# Altium footprint library Footprints_Semiconductors.PcbLib: 7 footprints
Each footprint in its own frame and in the unit in brackets; x right, y up, seen from the top. Pads: shape width x height; smd on the part's side, far side on the other; paste and mask are expansions set on the pad; w line width, h text height; cw(c..) or ccw(c..) is an arc to the next point about the centre after c.
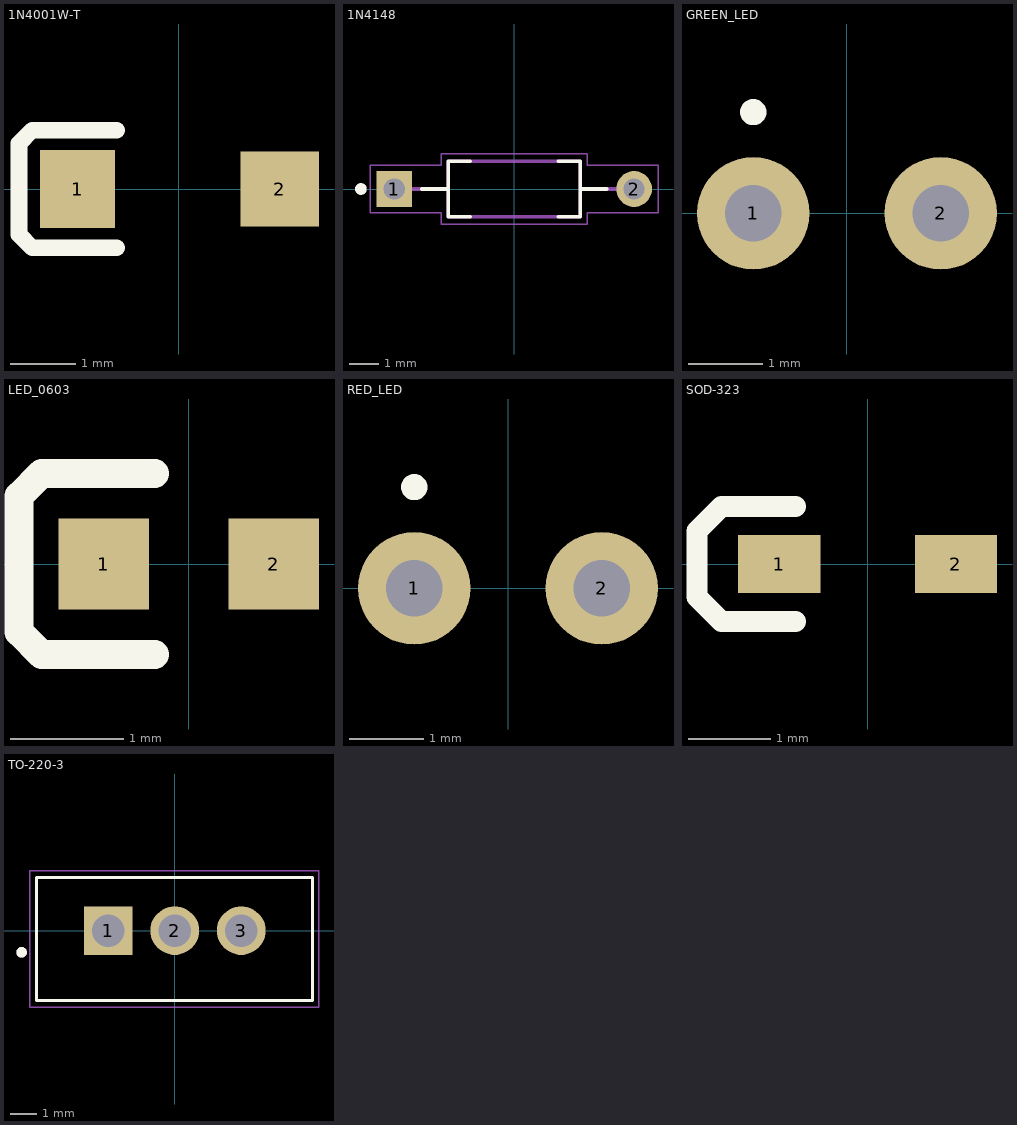
[diagram p0: the footprints below, top view; thin cyan lines are the x and y axes]

## 1N4001W-T [mm]
pads (2):
  rect 1.15x1.2 smd mask+0.05: 1(-1.55,0)
  rect 1.2x1.15 smd mask+0.05: 2(1.55,0)
Top Overlay:
  lines w0.254: -0.95,-0.9 -2.25,-0.9 -2.45,-0.7 -2.45,0.7 -2.25,0.9 -0.95,0.9
3D body "1N4001W-T.stp": height 1.3, standoff 0, extent -1.9,-0.9 1.9,0.9

## 1N4148 [mm]
pads (2):
  rect 1.238x1.238 / inner round 1.238 / far side rect 1.238x1.238 hole 0.73: 1(-4.146,0)
  round 1.238 hole 0.73: 2(4.146,0)
Top Overlay:
  circle w0.2: c-5.3,0 r0.1
  lines w0.127: -3.2,0 -2.28,0 ; -2.28,-0.96 -1.52,-0.96 ; -2.28,-0.95 -2.28,0 ; -1.52,0.96 -2.28,0.96 -2.28,0 ; 1.52,-0.96 2.28,-0.96 2.28,0 ; 1.52,0.96 2.28,0.96 ; 2.28,0.95 2.28,0 ; 3.2,0 2.28,0
Mechanical 13:
  circle w0.2: c-5.3,0 r0.1
  lines w0.127: -3.581,0 -2.28,0 ; 3.581,0 2.28,0 ; -2.28,0 -2.28,0.96 2.28,0.96 2.28,0 ; -2.28,0 -2.28,-0.96 2.28,-0.96 2.28,0
Mechanical 15:
  lines w0.05: -4.97,-0.815 -2.53,-0.815 -2.53,-1.21 2.53,-1.21 2.53,-0.815 4.97,-0.815 4.97,0.815 2.53,0.815 2.53,1.21 -2.53,1.21 -2.53,0.815 -4.97,0.815 -4.97,-0.815
3D body "Diode 1N4148.stp": height 1.65, standoff -2.71, extent -4.01,-0.8 4.01,0.838

## GREEN_LED [mil]
pads (2):
  round 60 hole 30: 1(-50,0) 2(50,0)
Top Overlay:
  circle w10: c-50,53.94 r1.97
3D body "LED 5mm, Green, Thru-hole, Right Angle PCB 2.stp": height 234.07, standoff -125.98, extent -116.09,-421.26 96.46,9.84

## LED_0603 [mm]
pads (2):
  rect 0.8x0.8 smd: 1(-0.75,0) 2(0.75,0)
Top Overlay:
  lines w0.254: -0.3,-0.8 -1.3,-0.8 -1.5,-0.6 -1.5,-0.5 -1.5,0.6 -1.3,0.8 -0.3,0.8
3D body "HSMD-C191.stp": height 0.6, standoff 0, extent -0.8,-0.4 0.8,0.4

## RED_LED [mil]
pads (2):
  round 60 hole 30: 1(-50,0) 2(50,0)
Top Overlay:
  circle w10: c-50,53.94 r1.97
3D body "LED 5mm, Red, Thru-hole, Right Angle PCB 2.stp": height 234.07, standoff -125.98, extent -116.09,-421.26 96.46,9.84

## SOD-323 [mm]
pads (2):
  rect 1x0.7 smd: 1(-1.075,0) 2(1.075,0)
Top Overlay:
  lines w0.254: -0.875,-0.7 -1.775,-0.7 -1.875,-0.6 -2.075,-0.4 -2.075,0.4 -1.775,0.7 -0.875,0.7
3D body "SOD-323.STEP": height 1.06, standoff -0.09, extent -1.35,-0.723 1.35,0.723

## TO-220-3 [mm]
pads (3):
  rect 1.86x1.86 / inner round 1.86 / far side rect 1.86x1.86 hole 1.24: 1(-2.54,0)
  round 1.86 hole 1.24: 2(0,0) 3(2.54,0)
Top Overlay:
  circle w0.2: c-5.85,-0.83 r0.1
  lines w0.127: -5.28,-2.67 -5.28,2.03 5.26,2.03 5.26,-2.67 -5.28,-2.67
Mechanical 13:
  circle w0.2: c-5.85,-0.83 r0.1
  lines w0.127: -5.28,2.03 -5.28,-2.67 5.26,-2.67 5.26,2.03
Mechanical 15:
  lines w0.05: -5.53,-2.92 -5.53,2.28 5.51,2.28 5.51,-2.92 -5.53,-2.92
3D body "LD1117AV33.step": height 15.89, standoff -14.69, extent -5.15,-2.632 5.15,1.94